# Altium footprint library XDCR_AT-1224-TWT-5V-2-R.PcbLib: 1 footprints
Each footprint in its own frame and in the unit in brackets; x right, y up, seen from the top. Pads: shape width x height; smd on the part's side, far side on the other; paste and mask are expansions set on the pad; w line width, h text height; cw(c..) or ccw(c..) is an arc to the next point about the centre after c.
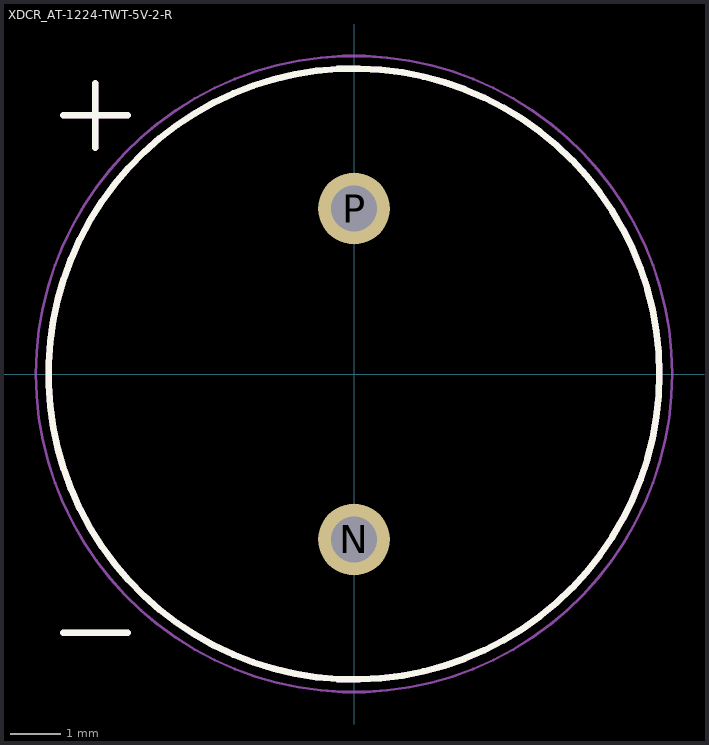
[diagram p0: the footprint, top view; thin cyan lines are the x and y axes]

## XDCR_AT-1224-TWT-5V-2-R [mm]
height 9.8
pads (2):
  round 1.408 hole 0.9: N(0,-3.25) P(0,3.25)
Top Overlay:
  circle w0.127: c0,0 r6
  lines w0.127: -5.715,-5.08 -4.445,-5.08 ; -5.715,5.08 -4.445,5.08 ; -5.08,4.445 -5.08,5.715
Mechanical 13:
  circle w0.127: c0,0 r6
  lines w0.127: -5.715,-5.08 -4.445,-5.08 ; -5.715,5.08 -4.445,5.08 ; -5.08,4.445 -5.08,5.715
Mechanical 15:
  circle w0.05: c0,0 r6.25
3D body "AT-1224-TWT-5V-2-R.step": height 9.06, standoff -3.79, extent -5.997,-8.732 5.997,6.006